# Altium integrated library myIntegrated_Library1.IntLib: 115 symbols
Pins are listed as number, name and electrical type; pins without a type are passive.

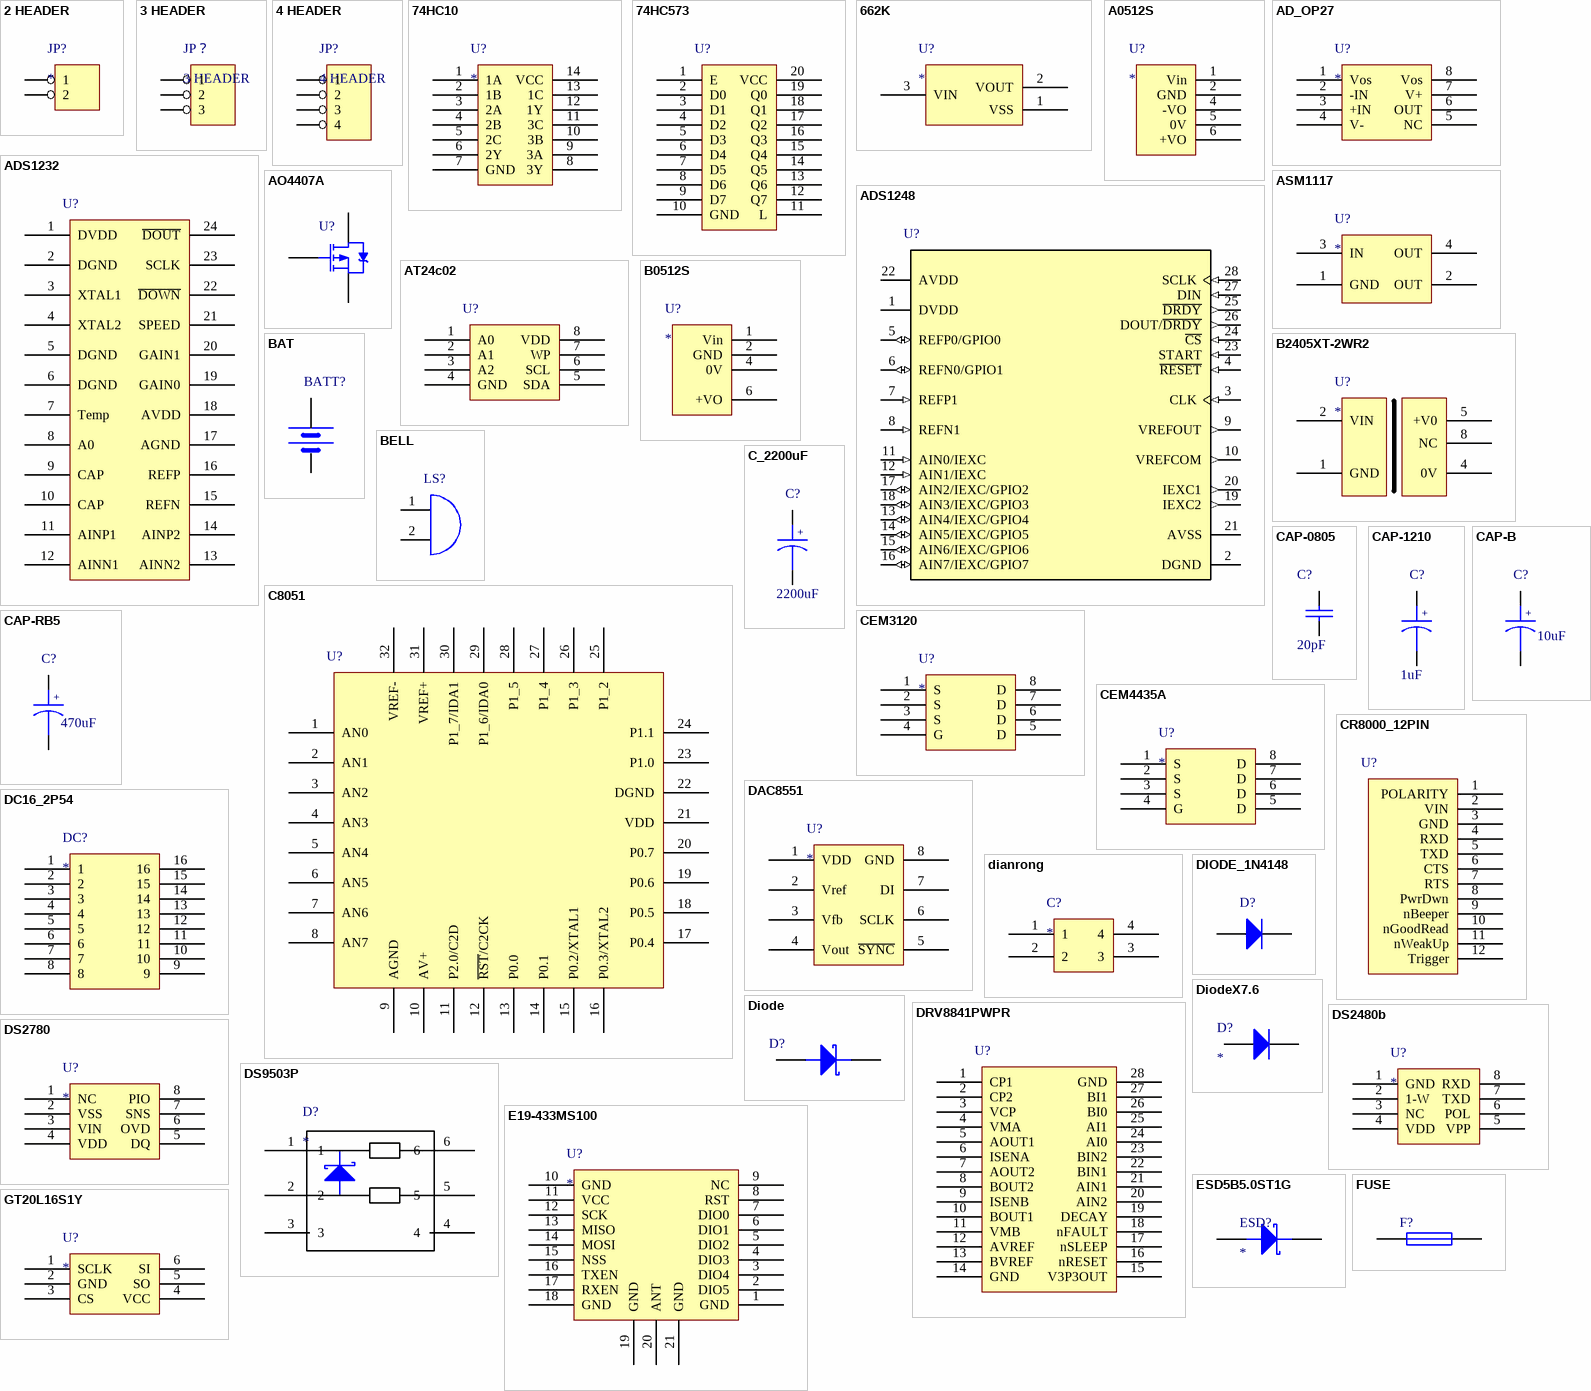
[diagram p0: symbols 2 HEADER to GT20L16S1Y]

## 2 HEADER
designator JP?
2 HEADER
footprint HDR1X2
pins: 1, 2

## 3 HEADER
designator JP？
3 Pin Header
footprint HDR1X3
pins: 1, 2, 3

## 4 HEADER
designator JP?
4 Pin Header
footprint HDR1X4
footprint TERMINAL_3.81MM
footprint SOP_XH4
footprint SMA-KWE
footprint CON4_1.5_1
pins: 1, 2, 3, 4

## 74HC10
designator U?
three input nand gain
footprint SO14 (Wide = 6mm)
pins: 1 1A, 2 1B, 3 2A, 4 2B, 5 2C, 6 2Y, 7 GND, 8 3Y, 9 3A, 10 3B, 11 3C, 12 1Y, 13 1C, 14 VCC

## 74HC573
designator U?  (value not drawn)
footprint 74HC573
pins: 1 E, 2 D0, 3 D1, 4 D2, 5 D3, 6 D4, 7 D5, 8 D6, 9 D7, 10 GND, 11 L, 12 Q7, 13 Q6, 14 Q5, 15 Q4, 16 Q3, 17 Q2, 18 Q1, 19 Q0, 20 VCC

## 662K
designator U?
footprint SOT-23
pins: 1 VSS, 2 VOUT, 3 VIN

## A0512S
designator U?
footprint SIP6-A0512S
pins: 1 Vin, 2 GND, 4 -VO, 5 0V, 6 +VO

## AD_OP27
designator U?
footprint SOP8-OP27
pins: 1 Vos, 2 -IN, 3 +IN, 4 V-, 5 NC, 6 OUT, 7 V+, 8 Vos

## ADS1232
designator U?  (value not drawn)
footprint TSSOP-24
pins: 1 DVDD, 2 DGND, 3 XTAL1, 4 XTAL2, 5 DGND, 6 DGND, 7 Temp, 8 A0, 9 CAP, 10 CAP, 11 AINP1, 12 AINN1, 13 AINN2, 14 AINP2, 15 REFN, 16 REFP, 17 AGND, 18 AVDD, 19 GAIN0, 20 GAIN1, 21 SPEED, 22 ~{DOWN}, 23 SCLK, 24 ~{DOUT}

## ADS1248
designator U?  (value not drawn)
footprint PW0028A_N
pins: 1 DVDD (power), 2 DGND (power), 3 CLK (in), 4 ~{RESET} (in), 5 REFP0/GPIO0 (io), 6 REFN0/GPIO1 (io), 7 REFP1 (in), 8 REFN1 (in), 9 VREFOUT (out), 10 VREFCOM (out), 11 AIN0/IEXC (in), 12 AIN1/IEXC (in), 13 AIN4/IEXC/GPIO4 (io), 14 AIN5/IEXC/GPIO5 (io), 15 AIN6/IEXC/GPIO6 (io), 16 AIN7/IEXC/GPIO7 (io), 17 AIN2/IEXC/GPIO2 (io), 18 AIN3/IEXC/GPIO3 (io), 19 IEXC2 (out), 20 IEXC1 (out), 21 AVSS (power), 22 AVDD (power), 23 START (in), 24 ~{CS} (in), 25 ~{DRDY} (out), 26 DOUT/~{DRDY} (out), 27 DIN (in), 28 SCLK (in)

## AO4407A
designator U?  (value not drawn)
footprint AO4407A
pins: 1 S, 4 G, 5 D

## ASM1117
designator U?
footprint ZZ311 (SOT-223/SC-73; 4 Leads; Body 6.7 x 7.3 mm, inc. leads (LxW max))
pins: 1 GND, 2 OUT, 3 IN, 4 OUT

## AT24c02
designator U?  (value not drawn)
footprint TSSOP8
pins: 1 A0, 2 A1, 3 A2, 4 GND, 5 SDA, 6 SCL, 7 WP, 8 VDD

## B0512S
designator U?
footprint SIP6-B0512S
pins: 1 Vin, 2 GND, 4 0V, 6 +VO

## B2405XT-2WR2
designator U?
footprint B2405XT-2WR2
pins: 1 GND, 2 VIN, 4 0V, 5 +V0, 8 NC

## BAT
designator BATT?  (value not drawn)
BATT
footprint BATM
pins: 1 VCC, 2 GND

## BELL
designator LS?  (value not drawn)
footprint bell
pins: 1 A, 2 B

## C8051
designator U?  (value not drawn)
footprint TQFP-32
pins: 1 AN0, 2 AN1, 3 AN2, 4 AN3, 5 AN4, 6 AN5, 7 AN6, 8 AN7, 9 AGND, 10 AV+, 11 P2.0/C2D, 12 ~{RST}/C2CK, 13 P0.0, 14 P0.1, 15 P0.2/XTAL1, 16 P0.3/XTAL2, 17 P0.4, 18 P0.5, 19 P0.6, 20 P0.7, 21 VDD, 22 DGND, 23 P1.0, 24 P1.1, 25 P1_2, 26 P1_3, 27 P1_4, 28 P1_5, 29 P1_6/IDA0, 30 P1_7/IDA1, 31 VREF+, 32 VREF-

## C_2200uF
designator C?  (value not drawn)
footprint C7.8*17
footprint C5*10
pins: 1, 2
text: +; 2200uF

## CAP-0805
designator C?  value 20pF  (hidden comment: *)
footprint 0805 (1.14mm,1.2mm,3.05mm)
footprint C0805TAN
pins: 1, 2

## CAP-1210
designator C?  value 1uF  (hidden comment: *)
footprint 3225[1210] (Chip Resistor; Body 3.2 x 2.5 mm (LxW typ))
pins: 1, 2
text: +

## CAP-B
designator C?  value 10uF  (hidden comment: *)
footprint B (Capacitor, Electrolytic, Radial; Body 5 x 6.8 mm (Dia.xH typ); Pin Spacing 2 mm (typ))
footprint C3*6
footprint CAP D-7343
footprint Model Name (Model Description)
footprint C-63*54-SMD
pins: 1, 2
text: +

## CAP-RB5
designator C?  value 470uF  (hidden comment: *)
footprint RB5-10.5 (Motor, General Kind; 2 Leads)
footprint 220uF
pins: 1, 2
text: +

## CEM3120
designator U?
footprint SOP8-OP27
pins: 1 S, 2 S, 3 S, 4 G, 5 D, 6 D, 7 D, 8 D

## CEM4435A
designator U?
footprint SOP8-OP27
pins: 1 S, 2 S, 3 S, 4 G, 5 D, 6 D, 7 D, 8 D

## CR8000_12PIN
designator U?  (value not drawn)
footprint CR8000_12PIN
pins: 1 POLARITY, 2 VIN, 3 GND, 4 RXD, 5 TXD, 6 CTS, 7 RTS, 8 PwrDwn, 9 nBeeper, 10 nGoodRead, 11 nWeakUp, 12 Trigger

## DAC8551
designator U?
footprint DAC8551-SOP8
pins: 1 VDD, 2 Vref, 3 Vfb, 4 Vout, 5 ~{SYNC}, 6 SCLK, 7 DI, 8 GND

## DC16_2P54
designator DC?
footprint DC16_DIP16
pins: 1, 2, 3, 4, 5, 6, 7, 8, 9, 10, 11, 12, 13, 14, 15, 16

## dianrong
designator C?
footprint dianrrong
pins: 1, 2, 3, 4

## Diode
designator D?  (value not drawn)
footprint SMC (DO-214-AB/SMC; 2 C-Bend Leads; Body 7.9 x 5.9 mm, inc. leads (LxW))
footprint DIODE-1206
footprint LED-0805
footprint LL34
pins: 1, 2

## DIODE_1N4148
designator D?  (value not drawn)
pins: 1 A, 2 K

## DiodeX7.6
designator D?
footprint Diode7.6-2.5-1.5
footprint SMA
footprint SS34
pins: 1 A, 2 K

## DRV8841PWPR
designator U?  (value not drawn)
footprint TSSOP28_PAD
footprint TSSOP28_PAD
pins: 1 CP1, 2 CP2, 3 VCP, 4 VMA, 5 AOUT1, 6 ISENA, 7 AOUT2, 8 BOUT2, 9 ISENB, 10 BOUT1, 11 VMB, 12 AVREF, 13 BVREF, 14 GND, 15 V3P3OUT, 16 nRESET, 17 nSLEEP, 18 nFAULT, 19 DECAY, 20 AIN2, 21 AIN1, 22 BIN1, 23 BIN2, 24 AI0, 25 AI1, 26 BI0, 27 BI1, 28 GND

## DS2480b
designator U?
footprint SOP8-OP27
pins: 1 GND, 2 1-W, 3 NC, 4 VDD, 5 VPP, 6 POL, 7 TXD, 8 RXD

## DS2780
designator U?
footprint TSSOP8
pins: 1 NC, 2 VSS, 3 VIN, 4 VDD, 5 DQ, 6 OVD, 7 SNS, 8 PIO

## DS9503P
designator D?
footprint TSOC-6
pins: 1, 2, 3, 4, 5, 6

## E19-433MS100
designator U?
footprint E19-433MS100
pins: 1 GND, 2 DIO5, 3 DIO4, 4 DIO3, 5 DIO2, 6 DIO1, 7 DIO0, 8 RST, 9 NC, 10 GND, 11 VCC, 12 SCK, 13 MISO, 14 MOSI, 15 NSS, 16 TXEN, 17 RXEN, 18 GND, 19 GND, 20 ANT, 21 GND

## ESD5B5.0ST1G
designator ESD?
footprint SOD-523
pins: 1, 2

## FUSE
designator F?  (value not drawn)
footprint 3225[1210] (Chip Resistor; Body 3.2 x 2.5 mm (LxW typ))
footprint X30UF900
footprint X30UF300
footprint X30UF600
pins: 1, 2

## GT20L16S1Y
designator U?
footprint SOT23-6
pins: 1 SCLK, 2 GND, 3 CS, 4 VCC, 5 SO, 6 SI

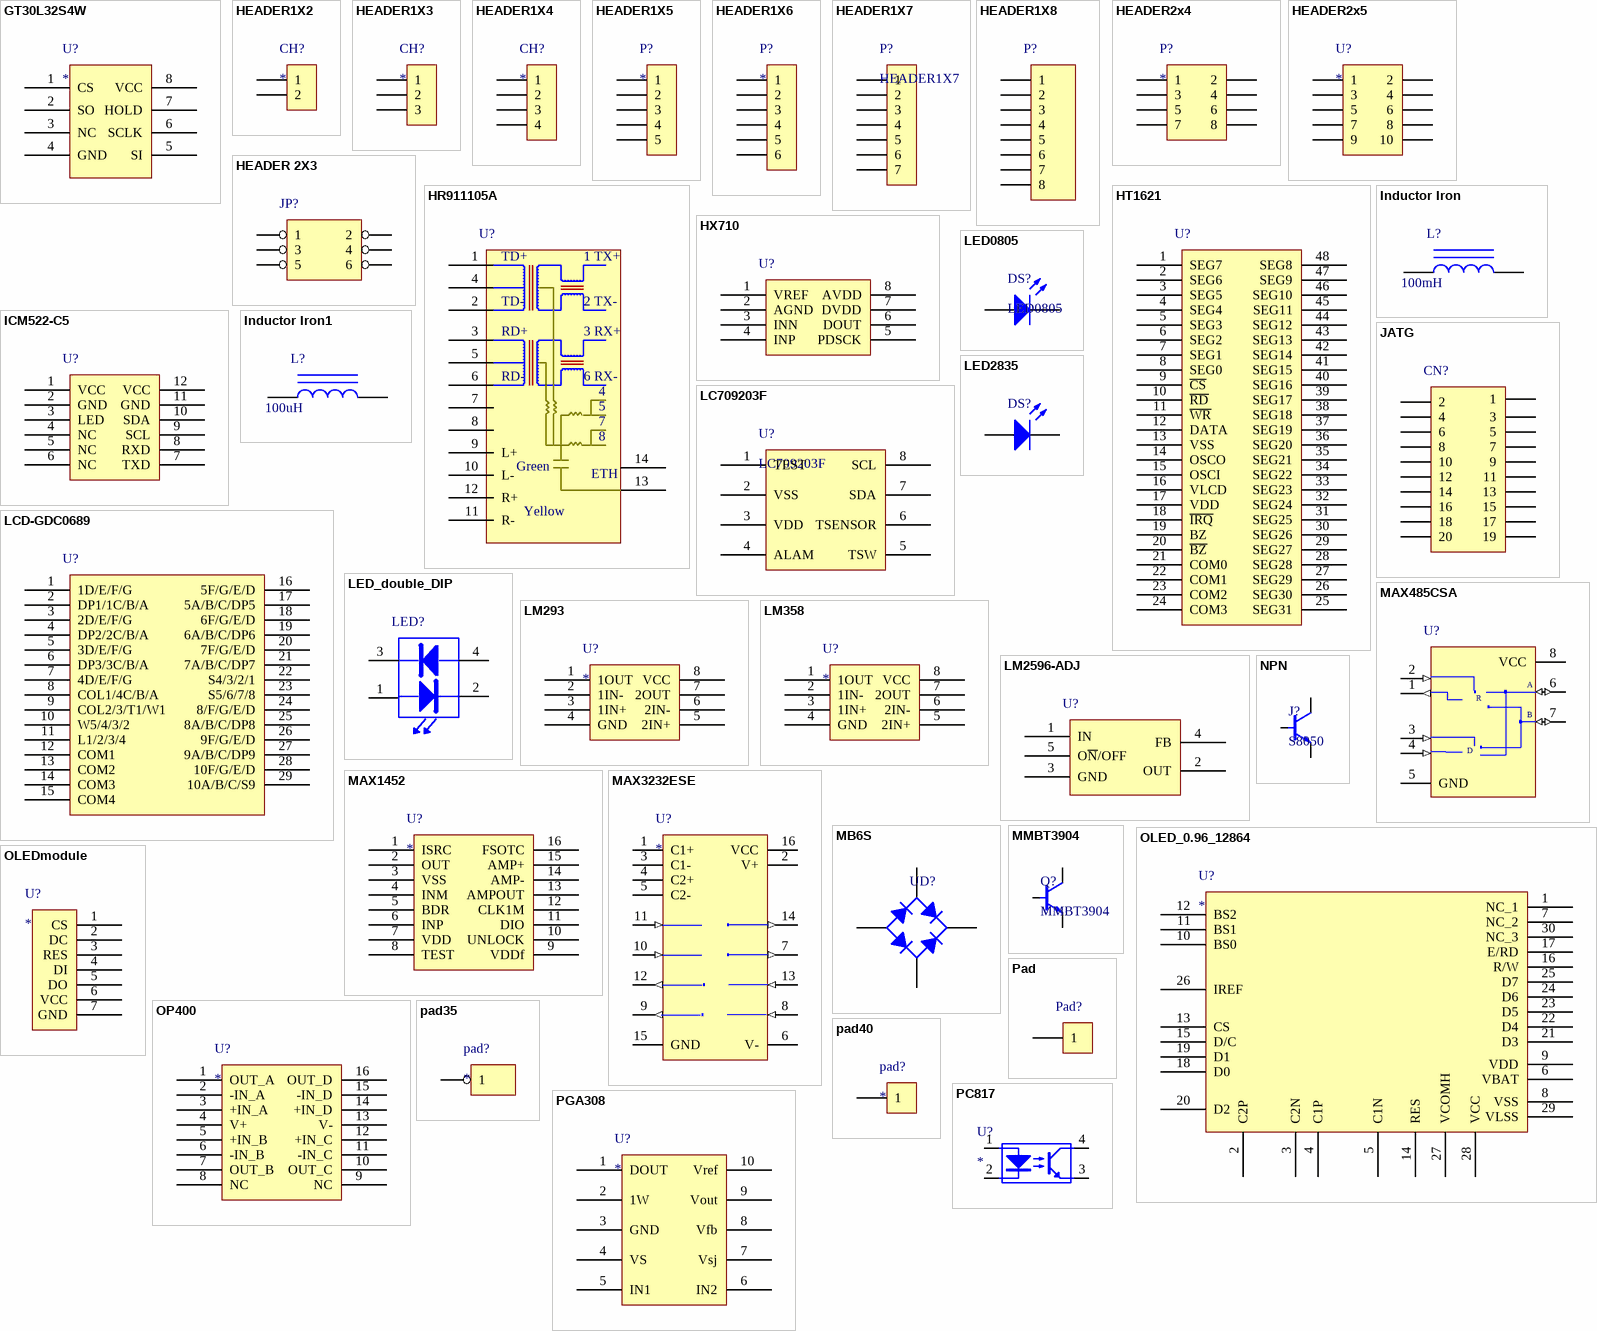
[diagram p1: symbols GT30L32S4W to PGA308]

## GT30L32S4W
designator U?
footprint SOP8_208mil
pins: 1 CS, 2 SO, 3 NC, 4 GND, 5 SI, 6 SCLK, 7 HOLD, 8 VCC

## HEADER1X2
designator CH?
footprint CH3.96-2PIN
footprint CH3961R_2P
pins: 1, 2

## HEADER1X3
designator CH?
footprint CH3.96-3PIN
pins: 1, 2, 3

## HEADER1X4
designator CH?
footprint CH3.96-4PIN
footprint CH396_SO4
footprint XH2.54-4A
footprint XH2.54-4AW
pins: 1, 2, 3, 4

## HEADER1X5
designator P?
footprint HDR1X5
footprint CH3.96-5PIN
pins: 1, 2, 3, 4, 5

## HEADER1X6
designator P?
footprint HDR1X6
footprint CH3.96-6PIN
footprint CH3961R_6P
pins: 1, 2, 3, 4, 5, 6

## HEADER1X7
designator P?
footprint HDR1X7
pins: 1, 2, 3, 4, 5, 6, 7

## HEADER1X8
designator P?  (value not drawn)
Header, 8-Pin
footprint HDR1X8
footprint CH3.96-8PIN
pins: 1, 2, 3, 4, 5, 6, 7, 8

## HEADER2x4
designator P?
footprint HDR2X4
footprint SOP8_switch
pins: 1, 2, 3, 4, 5, 6, 7, 8

## HEADER2x5
designator U?
HEADER2x5
footprint HDR2X5
pins: 1, 2, 3, 4, 5, 6, 7, 8, 9, 10

## HEADER 2X3
designator JP?  (value not drawn)
footprint HDR2X3
pins: 1, 2, 3, 4, 5, 6

## HR911105A
designator U?  (value not drawn)
footprint HR911105A
pins: 1, 2, 3, 4, 5, 6, 7, 8, 9 L+, 10 L-, 11 R-, 12 R+, 13, 14
text: TD+; 1 TX+; TD-; 2 TX-; RD+; 3 RX+; RD-; 6 RX-; Green; ETH; Yellow

## HT1621
designator U?  (value not drawn)
footprint HT1621-SSOP48
pins: 1 SEG7, 2 SEG6, 3 SEG5, 4 SEG4, 5 SEG3, 6 SEG2, 7 SEG1, 8 SEG0, 9 ~{CS}, 10 ~{RD}, 11 ~{WR}, 12 DATA, 13 VSS, 14 OSCO, 15 OSCI, 16 VLCD, 17 VDD, 18 ~{IRQ}, 19 BZ, 20 ~{BZ}, 21 COM0, 22 COM1, 23 COM2, 24 COM3, 25 SEG31, 26 SEG30, 27 SEG29, 28 SEG28, 29 SEG27, 30 SEG26, 31 SEG25, 32 SEG24, 33 SEG23, 34 SEG22, 35 SEG21, 36 SEG20, 37 SEG19, 38 SEG18, 39 SEG17, 40 SEG16, 41 SEG15, 42 SEG14, 43 SEG13, 44 SEG12, 45 SEG11, 46 SEG10, 47 SEG9, 48 SEG8

## HX710
designator U?  (value not drawn)
footprint NS08-L (SOIC, 8-Leads, Body 4.9x3.9mm, Pitch 1.27mm, IPC High Density)
pins: 1 VREF, 2 AGND, 3 INN, 4 INP, 5 PDSCK, 6 DOUT, 7 DVDD, 8 AVDD

## ICM522-C5
designator U?  (value not drawn)
ICM522-C5
footprint ICM522-C5
pins: 1 VCC, 2 GND, 3 LED, 4 NC, 5 NC, 6 NC, 7 TXD, 8 RXD, 9 SCL, 10 SDA, 11 GND, 12 VCC

## Inductor Iron
designator L?  value 100mH  (hidden comment: *)
footprint Inductor_8X8
pins: 1, 2

## Inductor Iron1
designator L?  (value not drawn)
footprint Inductor_4X8
footprint CD54R
footprint 6045
pins: 1, 2
text: 100uH

## JATG
designator CN?  (value not drawn)
footprint JTAG_DIP20
pins: 1, 2, 3, 4, 5, 6, 7, 8, 9, 10, 11, 12, 13, 14, 15, 16, 17, 18, 19, 20

## LC709203F
designator U?
footprint TSSOP8_1
pins: 1 TEST, 2 VSS, 3 VDD, 4 ALAM, 5 TSW, 6 TSENSOR, 7 SDA, 8 SCL

## LCD-GDC0689
designator U?  (value not drawn)
footprint GDC0689-DIP29
pins: 1 1D/E/F/G, 2 DP1/1C/B/A, 3 2D/E/F/G, 4 DP2/2C/B/A, 5 3D/E/F/G, 6 DP3/3C/B/A, 7 4D/E/F/G, 8 COL1/4C/B/A, 9 COL2/3/T1/W1, 10 W5/4/3/2, 11 L1/2/3/4, 12 COM1, 13 COM2, 14 COM3, 15 COM4, 16 5F/G/E/D, 17 5A/B/C/DP5, 18 6F/G/E/D, 19 6A/B/C/DP6, 20 7F/G/E/D, 21 7A/B/C/DP7, 22 S4/3/2/1, 23 S5/6/7/8, 24 8/F/G/E/D, 25 8A/B/C/DP8, 26 9F/G/E/D, 27 9A/B/C/DP9, 28 10F/G/E/D, 29 10A/B/C/S9

## LED0805
designator DS?
Typical INFRARED GaAs LED
footprint LED-0805
footprint LED_5X5
pins: 1, 2

## LED2835
designator DS?  (value not drawn)
value: *
footprint 2835 (LED light footprints)
footprint LED-0805
pins: 1, 2

## LED_double_DIP
designator LED?  (value not drawn)
footprint LED_double
footprint Model Name (Model Description)
pins: 1, 2, 3, 4

## LM293
designator U?
footprint SOP8-OP27
pins: 1 1OUT, 2 1IN-, 3 1IN+, 4 GND, 5 2IN+, 6 2IN-, 7 2OUT, 8 VCC

## LM358
designator U?
footprint SOP8-LM358
pins: 1 1OUT, 2 1IN-, 3 1IN+, 4 GND, 5 2IN+, 6 2IN-, 7 2OUT, 8 VCC

## LM2596-ADJ
designator U?  (value not drawn)
footprint TS5B (D2-PAK; 5 Leads; Body 14.4 (inc. leads) x 10.4 mm (LxW max))
pins: 1 IN, 2 OUT, 3 GND, 4 FB, 5 O~{N}/OFF

## MAX485CSA
designator U?  (value not drawn)
footprint NS08-L (SOIC, 8-Leads, Body 4.9x3.9mm, Pitch 1.27mm, IPC High Density)
pins: 1 RO (out), 2 ~{RE} (in), 3 DE (in), 4 DI (in), 5 GND (power), 6 A (io), 7 B (io), 8 VCC (power)
text: R; D

## MAX1452
designator U?
MAX1452
footprint SSOP16
pins: 1 ISRC, 2 OUT, 3 VSS, 4 INM, 5 BDR, 6 INP, 7 VDD, 8 TEST, 9 VDDf, 10 UNLOCK, 11 DIO, 12 CLK1M, 13 AMPOUT, 14 AMP-, 15 AMP+, 16 FSOTC

## MAX3232ESE
designator U?
MAX3232ESE
footprint NSO16_N
pins: 1 C1+, 2 V+ (power), 3 C1-, 4 C2+, 5 C2-, 6 V- (power), 7 T2OUT (out), 8 R2IN (in), 9 R2OUT (out), 10 T2IN (in), 11 T1IN (in), 12 R1OUT (out), 13 R1IN (in), 14 T1OUT (out), 15 GND (power), 16 VCC (power)

## MB6S
designator UD?  (value not drawn)
footprint MB6S
pins: 1 A, 2 C, 3 K, 4 C

## MMBT3904
designator Q?
footprint SOT-23
pins: 1 B, 2 E, 3 C

## NPN
designator J?, comment S8050
footprint NPN
pins: 1 B, 2 C, 3 E

## OLED_0.96_12864
designator U?
footprint OLED_0.96_12864
footprint OLED_1.30_12864
pins: 1 NC_1, 2 C2P, 3 C2N, 4 C1P, 5 C1N, 6 VBAT, 7 NC_2, 8 VSS, 9 VDD, 10 BS0, 11 BS1, 12 BS2, 13 CS, 14 RES, 15 D/C, 16 R/W, 17 E/RD, 18 D0, 19 D1, 20 D2, 21 D3, 22 D4, 23 D5, 24 D6, 25 D7, 26 IREF, 27 VCOMH, 28 VCC, 29 VLSS, 30 NC_3

## OLEDmodule
designator U?
footprint oledmodule
pins: 1 CS, 2 DC, 3 RES, 4 DI, 5 DO, 6 VCC, 7 GND

## OP400
designator U?
OP400
footprint SOL16
pins: 1 OUT_A, 2 -IN_A, 3 +IN_A, 4 V+, 5 +IN_B, 6 -IN_B, 7 OUT_B, 8 NC, 9 NC, 10 OUT_C, 11 -IN_C, 12 +IN_C, 13 V-, 14 +IN_D, 15 -IN_D, 16 OUT_D

## Pad
designator Pad?  (value not drawn)
footprint Pad
footprint pad35
footprint pad40
footprint PAD2X4MM
pins: 1

## pad35
designator pad?
footprint pad35
pins: 1

## pad40
designator pad?
footprint pad40
pins: 1

## PC817
designator U?
PC817
footprint DIP4-PC817
footprint Model Name (Model Description)
footprint SOP4
footprint Model Name (Model Description)
footprint SOP4-PC817
footprint SOP4_127
pins: 1 LED Anode, 2 LED Cathode, 3 Emitter, 4 Collector

## PGA308
designator U?
PGA308
footprint PGA308
pins: 1 DOUT, 2 1W, 3 GND, 4 VS, 5 IN1, 6 IN2, 7 Vsj, 8 Vfb, 9 Vout, 10 Vref

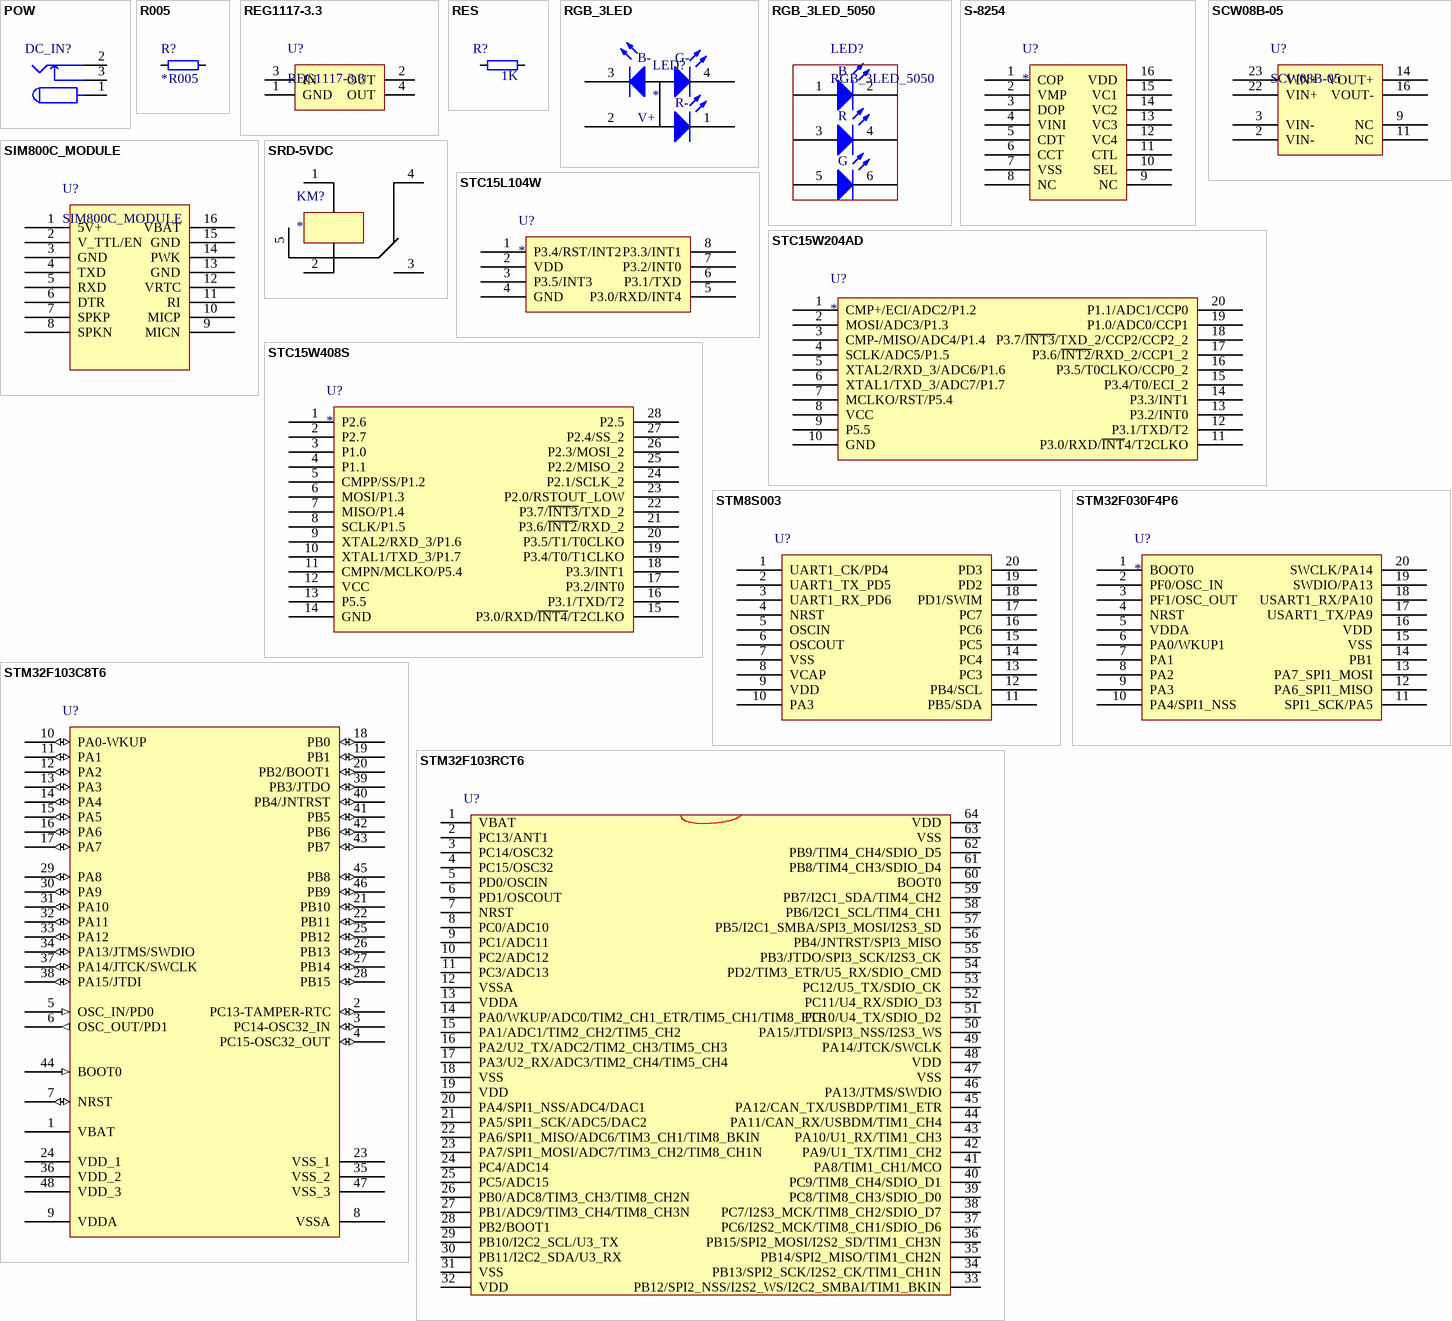
[diagram p2: symbols POW to STM32F103RCT6]

## POW
designator DC_IN?  (value not drawn)
footprint DC10B
pins: 1, 2, 3

## R005
designator R?
footprint 2512
pins: 1, 2

## REG1117-3.3
designator U?
800mA and 1A Low Dropout Positive Regulator 2.85V, 3.3V, 5V, and Adjustable; PackageDescription: SOT-223/SC-73; 4 Leads; Body 6.7 x 7.3 mm, inc. leads (LxW max)
footprint ZZ311 (SOT-223/SC-73; 4 Leads; Body 6.7 x 7.3 mm, inc. leads (LxW max))
pins: 1 GND (power), 2 OUT (power), 3 IN (power), 4 OUT (power)

## RES
designator R?  value 1K  (hidden comment: *)
footprint 0805 (1.14mm,1.2mm,3.05mm)
pins: 1, 2

## RGB_3LED
designator LED?
footprint RGB_3LED_3528
pins: 1 R-, 2 V+, 3 B-, 4 G-

## RGB_3LED_5050
designator LED?
footprint RGB_3LED_5050
pins: 1, 2, 3, 4, 5, 6
text: B; R; G

## S-8254
designator U?
footprint TSSOP16
pins: 1 COP, 2 VMP, 3 DOP, 4 VINI, 5 CDT, 6 CCT, 7 VSS, 8 NC, 9 NC, 10 SEL, 11 CTL, 12 VC4, 13 VC3, 14 VC2, 15 VC1, 16 VDD

## SCW08B-05
designator U?
footprint SCW08B-05
pins: 2 VIN-, 3 VIN-, 9 NC, 11 NC, 14 VOUT+, 16 VOUT-, 22 VIN+, 23 VIN+

## SIM800C_MODULE
designator U?
footprint SIM800C_MODULE
pins: 1 5V+, 2 V_TTL/EN, 3 GND, 4 TXD, 5 RXD, 6 DTR, 7 SPKP, 8 SPKN, 9 MICN, 10 MICP, 11 RI, 12 VRTC, 13 GND, 14 PWK, 15 GND, 16 VBAT

## SRD-5VDC
designator KM?
SRD-5VDC
footprint SRD_5DIP
pins: 1, 2, 3, 4, 5

## STC15L104W
designator U?
STC15L104W
footprint SOP8-OP27
pins: 1 P3.4/RST/INT2, 2 VDD, 3 P3.5/INT3, 4 GND, 5 P3.0/RXD/INT4, 6 P3.1/TXD, 7 P3.2/INT0, 8 P3.3/INT1

## STC15W204AD
designator U?
pins: 1 CMP+/ECI/ADC2/P1.2, 2 MOSI/ADC3/P1.3, 3 CMP-/MISO/ADC4/P1.4, 4 SCLK/ADC5/P1.5, 5 XTAL2/RXD_3/ADC6/P1.6, 6 XTAL1/TXD_3/ADC7/P1.7, 7 MCLKO/RST/P5.4, 8 VCC, 9 P5.5, 10 GND, 11 P3.0/RXD/~{INT}4/T2CLKO, 12 P3.1/TXD/T2, 13 P3.2/INT0, 14 P3.3/INT1, 15 P3.4/T0/ECI_2, 16 P3.5/T0CLKO/CCP0_2, 17 P3.6/~{INT2}/RXD_2/CCP1_2, 18 P3.7/~{INT3}/TXD_2/CCP2/CCP2_2, 19 P1.0/ADC0/CCP1, 20 P1.1/ADC1/CCP0

## STC15W408S
designator U?
pins: 1 P2.6, 2 P2.7, 3 P1.0, 4 P1.1, 5 CMPP/SS/P1.2, 6 MOSI/P1.3, 7 MISO/P1.4, 8 SCLK/P1.5, 9 XTAL2/RXD_3/P1.6, 10 XTAL1/TXD_3/P1.7, 11 CMPN/MCLKO/P5.4, 12 VCC, 13 P5.5, 14 GND, 15 P3.0/RXD/~{INT4}/T2CLKO, 16 P3.1/TXD/T2, 17 P3.2/INT0, 18 P3.3/INT1, 19 P3.4/T0/T1CLKO, 20 P3.5/T1/T0CLKO, 21 P3.6/~{INT2}/RXD_2, 22 P3.7/~{INT3}/TXD_2, 23 P2.0/RSTOUT_LOW, 24 P2.1/SCLK_2, 25 P2.2/MISO_2, 26 P2.3/MOSI_2, 27 P2.4/SS_2, 28 P2.5

## STM8S003
designator U?  (value not drawn)
STM8S003
footprint TSSOP20
pins: 1 UART1_CK/PD4, 2 UART1_TX_PD5, 3 UART1_RX_PD6, 4 NRST, 5 OSCIN, 6 OSCOUT, 7 VSS, 8 VCAP, 9 VDD, 10 PA3, 11 PB5/SDA, 12 PB4/SCL, 13 PC3, 14 PC4, 15 PC5, 16 PC6, 17 PC7, 18 PD1/SWIM, 19 PD2, 20 PD3

## STM32F030F4P6
designator U?
footprint TSSOP20
pins: 1 BOOT0, 2 PF0/OSC_IN, 3 PF1/OSC_OUT, 4 NRST, 5 VDDA, 6 PA0/WKUP1, 7 PA1, 8 PA2, 9 PA3, 10 PA4/SPI1_NSS, 11 SPI1_SCK/PA5, 12 PA6_SPI1_MISO, 13 PA7_SPI1_MOSI, 14 PB1, 15 VSS, 16 VDD, 17 USART1_TX/PA9, 18 USART1_RX/PA10, 19 SWDIO/PA13, 20 SWCLK/PA14

## STM32F103C8T6
designator U?  (value not drawn)
STM32F103C8T6
footprint LQFP48
pins: 1 VBAT (power), 2 PC13-TAMPER-RTC (io), 3 PC14-OSC32_IN (io), 4 PC15-OSC32_OUT (io), 5 OSC_IN/PD0 (in), 6 OSC_OUT/PD1 (out), 7 NRST (io), 8 VSSA (power), 9 VDDA (power), 10 PA0-WKUP (io), 11 PA1 (io), 12 PA2 (io), 13 PA3 (io), 14 PA4 (io), 15 PA5 (io), 16 PA6 (io), 17 PA7 (io), 18 PB0 (io), 19 PB1 (io), 20 PB2/BOOT1 (io), 21 PB10 (io), 22 PB11 (io), 23 VSS_1 (power), 24 VDD_1 (power), 25 PB12 (io), 26 PB13 (io), 27 PB14 (io), 28 PB15 (io), 29 PA8 (io), 30 PA9 (io), 31 PA10 (io), 32 PA11 (io), 33 PA12 (io), 34 PA13/JTMS/SWDIO (io), 35 VSS_2 (power), 36 VDD_2 (power), 37 PA14/JTCK/SWCLK (io), 38 PA15/JTDI (io), 39 PB3/JTDO (io), 40 PB4/JNTRST (io), 41 PB5 (io), 42 PB6 (io), 43 PB7 (io), 44 BOOT0 (in), 45 PB8 (io), 46 PB9 (io), 47 VSS_3 (power), 48 VDD_3 (power)

## STM32F103RCT6
designator U?  (value not drawn)
STM32F103RCT6
footprint LQFP64 (Thin QFP, 64-Leads, Body 10x10mm, Pitch 0.5mm, IPC Medium Density)
footprint LQFP64 - duplicate (LQFP64)
pins: 1 VBAT, 2 PC13/ANT1, 3 PC14/OSC32, 4 PC15/OSC32, 5 PD0/OSCIN, 6 PD1/OSCOUT, 7 NRST, 8 PC0/ADC10, 9 PC1/ADC11, 10 PC2/ADC12, 11 PC3/ADC13, 12 VSSA, 13 VDDA, 14 PA0/WKUP/ADC0/TIM2_CH1_ETR/TIM5_CH1/TIM8_ETR, 15 PA1/ADC1/TIM2_CH2/TIM5_CH2, 16 PA2/U2_TX/ADC2/TIM2_CH3/TIM5_CH3, 17 PA3/U2_RX/ADC3/TIM2_CH4/TIM5_CH4, 18 VSS, 19 VDD, 20 PA4/SPI1_NSS/ADC4/DAC1, 21 PA5/SPI1_SCK/ADC5/DAC2, 22 PA6/SPI1_MISO/ADC6/TIM3_CH1/TIM8_BKIN, 23 PA7/SPI1_MOSI/ADC7/TIM3_CH2/TIM8_CH1N, 24 PC4/ADC14, 25 PC5/ADC15, 26 PB0/ADC8/TIM3_CH3/TIM8_CH2N, 27 PB1/ADC9/TIM3_CH4/TIM8_CH3N, 28 PB2/BOOT1, 29 PB10/I2C2_SCL/U3_TX, 30 PB11/I2C2_SDA/U3_RX, 31 VSS, 32 VDD, 33 PB12/SPI2_NSS/I2S2_WS/I2C2_SMBAI/TIM1_BKIN, 34 PB13/SPI2_SCK/I2S2_CK/TIM1_CH1N, 35 PB14/SPI2_MISO/TIM1_CH2N, 36 PB15/SPI2_MOSI/I2S2_SD/TIM1_CH3N, 37 PC6/I2S2_MCK/TIM8_CH1/SDIO_D6, 38 PC7/I2S3_MCK/TIM8_CH2/SDIO_D7, 39 PC8/TIM8_CH3/SDIO_D0, 40 PC9/TIM8_CH4/SDIO_D1, 41 PA8/TIM1_CH1/MCO, 42 PA9/U1_TX/TIM1_CH2, 43 PA10/U1_RX/TIM1_CH3, 44 PA11/CAN_RX/USBDM/TIM1_CH4, 45 PA12/CAN_TX/USBDP/TIM1_ETR, 46 PA13/JTMS/SWDIO, 47 VSS, 48 VDD, 49 PA14/JTCK/SWCLK, 50 PA15/JTDI/SPI3_NSS/I2S3_WS, 51 PC10/U4_TX/SDIO_D2, 52 PC11/U4_RX/SDIO_D3, 53 PC12/U5_TX/SDIO_CK, 54 PD2/TIM3_ETR/U5_RX/SDIO_CMD, 55 PB3/JTDO/SPI3_SCK/I2S3_CK, 56 PB4/JNTRST/SPI3_MISO, 57 PB5/I2C1_SMBA/SPI3_MOSI/I2S3_SD, 58 PB6/I2C1_SCL/TIM4_CH1, 59 PB7/I2C1_SDA/TIM4_CH2, 60 BOOT0, 61 PB8/TIM4_CH3/SDIO_D4, 62 PB9/TIM4_CH4/SDIO_D5, 63 VSS, 64 VDD

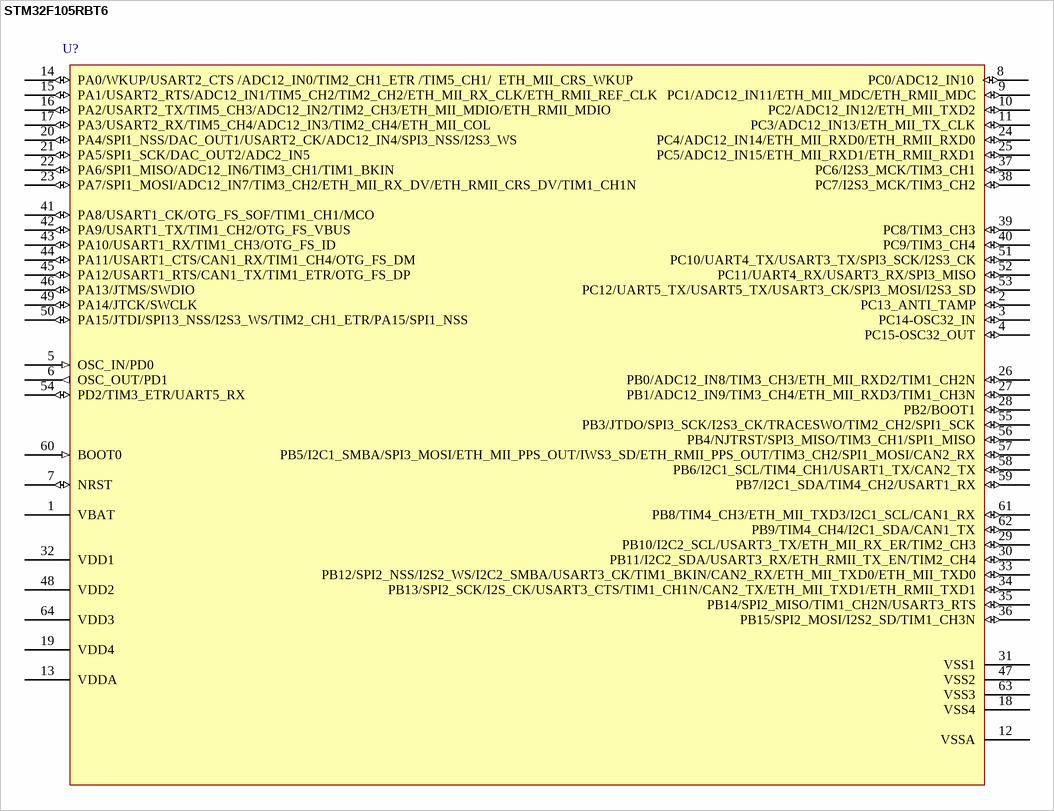
[diagram p3: symbol STM32F105RBT6]

## STM32F105RBT6
designator U?  (value not drawn)
footprint STM32-LQFP64 (Thin QFP, 64-Leads, Body 10x10mm, Pitch 0.5mm, IPC Medium Density)
pins: 1 VBAT (power), 2 PC13_ANTI_TAMP (io), 3 PC14-OSC32_IN (io), 4 PC15-OSC32_OUT (io), 5 OSC_IN/PD0 (in), 6 OSC_OUT/PD1 (out), 7 NRST (io), 8 PC0/ADC12_IN10 (io), 9 PC1/ADC12_IN11/ETH_MII_MDC/ETH_RMII_MDC (io), 10 PC2/ADC12_IN12/ETH_MII_TXD2 (io), 11 PC3/ADC12_IN13/ETH_MII_TX_CLK (io), 12 VSSA (power), 13 VDDA (power), 14 PA0/WKUP/USART2_CTS /ADC12_IN0/TIM2_CH1_ETR /TIM5_CH1/  ETH_MII_CRS_WKUP (io), 15 PA1/USART2_RTS/ADC12_IN1/TIM5_CH2/TIM2_CH2/ETH_MII_RX_CLK/ETH_RMII_REF_CLK (io), 16 PA2/USART2_TX/TIM5_CH3/ADC12_IN2/TIM2_CH3/ETH_MII_MDIO/ETH_RMII_MDIO (io), 17 PA3/USART2_RX/TIM5_CH4/ADC12_IN3/TIM2_CH4/ETH_MII_COL (io), 18 VSS4 (power), 19 VDD4 (power), 20 PA4/SPI1_NSS/DAC_OUT1/USART2_CK/ADC12_IN4/SPI3_NSS/I2S3_WS (io), 21 PA5/SPI1_SCK/DAC_OUT2/ADC2_IN5 (io), 22 PA6/SPI1_MISO/ADC12_IN6/TIM3_CH1/TIM1_BKIN (io), 23 PA7/SPI1_MOSI/ADC12_IN7/TIM3_CH2/ETH_MII_RX_DV/ETH_RMII_CRS_DV/TIM1_CH1N (io), 24 PC4/ADC12_IN14/ETH_MII_RXD0/ETH_RMII_RXD0 (io), 25 PC5/ADC12_IN15/ETH_MII_RXD1/ETH_RMII_RXD1 (io), 26 PB0/ADC12_IN8/TIM3_CH3/ETH_MII_RXD2/TIM1_CH2N (io), 27 PB1/ADC12_IN9/TIM3_CH4/ETH_MII_RXD3/TIM1_CH3N (io), 28 PB2/BOOT1 (io), 29 PB10/I2C2_SCL/USART3_TX/ETH_MII_RX_ER/TIM2_CH3 (io), 30 PB11/I2C2_SDA/USART3_RX/ETH_RMII_TX_EN/TIM2_CH4 (io), 31 VSS1 (power), 32 VDD1 (power), 33 PB12/SPI2_NSS/I2S2_WS/I2C2_SMBA/USART3_CK/TIM1_BKIN/CAN2_RX/ETH_MII_TXD0/ETH_MII_TXD0 (io), 34 PB13/SPI2_SCK/I2S_CK/USART3_CTS/TIM1_CH1N/CAN2_TX/ETH_MII_TXD1/ETH_RMII_TXD1 (io), 35 PB14/SPI2_MISO/TIM1_CH2N/USART3_RTS (io), 36 PB15/SPI2_MOSI/I2S2_SD/TIM1_CH3N (io), 37 PC6/I2S3_MCK/TIM3_CH1 (io), 38 PC7/I2S3_MCK/TIM3_CH2 (io), 39 PC8/TIM3_CH3 (io), 40 PC9/TIM3_CH4 (io), 41 PA8/USART1_CK/OTG_FS_SOF/TIM1_CH1/MCO (io), 42 PA9/USART1_TX/TIM1_CH2/OTG_FS_VBUS (io), 43 PA10/USART1_RX/TIM1_CH3/OTG_FS_ID (io), 44 PA11/USART1_CTS/CAN1_RX/TIM1_CH4/OTG_FS_DM (io), 45 PA12/USART1_RTS/CAN1_TX/TIM1_ETR/OTG_FS_DP (io), 46 PA13/JTMS/SWDIO (io), 47 VSS2 (power), 48 VDD2 (power), 49 PA14/JTCK/SWCLK (io), 50 PA15/JTDI/SPI13_NSS/I2S3_WS/TIM2_CH1_ETR/PA15/SPI1_NSS (io), 51 PC10/UART4_TX/USART3_TX/SPI3_SCK/I2S3_CK (io), 52 PC11/UART4_RX/USART3_RX/SPI3_MISO (io), 53 PC12/UART5_TX/USART5_TX/USART3_CK/SPI3_MOSI/I2S3_SD (io), 54 PD2/TIM3_ETR/UART5_RX (io), 55 PB3/JTDO/SPI3_SCK/I2S3_CK/TRACESWO/TIM2_CH2/SPI1_SCK (io), 56 PB4/NJTRST/SPI3_MISO/TIM3_CH1/SPI1_MISO (io), 57 PB5/I2C1_SMBA/SPI3_MOSI/ETH_MII_PPS_OUT/IWS3_SD/ETH_RMII_PPS_OUT/TIM3_CH2/SPI1_MOSI/CAN2_RX (io), 58 PB6/I2C1_SCL/TIM4_CH1/USART1_TX/CAN2_TX (io), 59 PB7/I2C1_SDA/TIM4_CH2/USART1_RX (io), 60 BOOT0 (in), 61 PB8/TIM4_CH3/ETH_MII_TXD3/I2C1_SCL/CAN1_RX (io), 62 PB9/TIM4_CH4/I2C1_SDA/CAN1_TX (io), 63 VSS3 (power), 64 VDD3 (power)

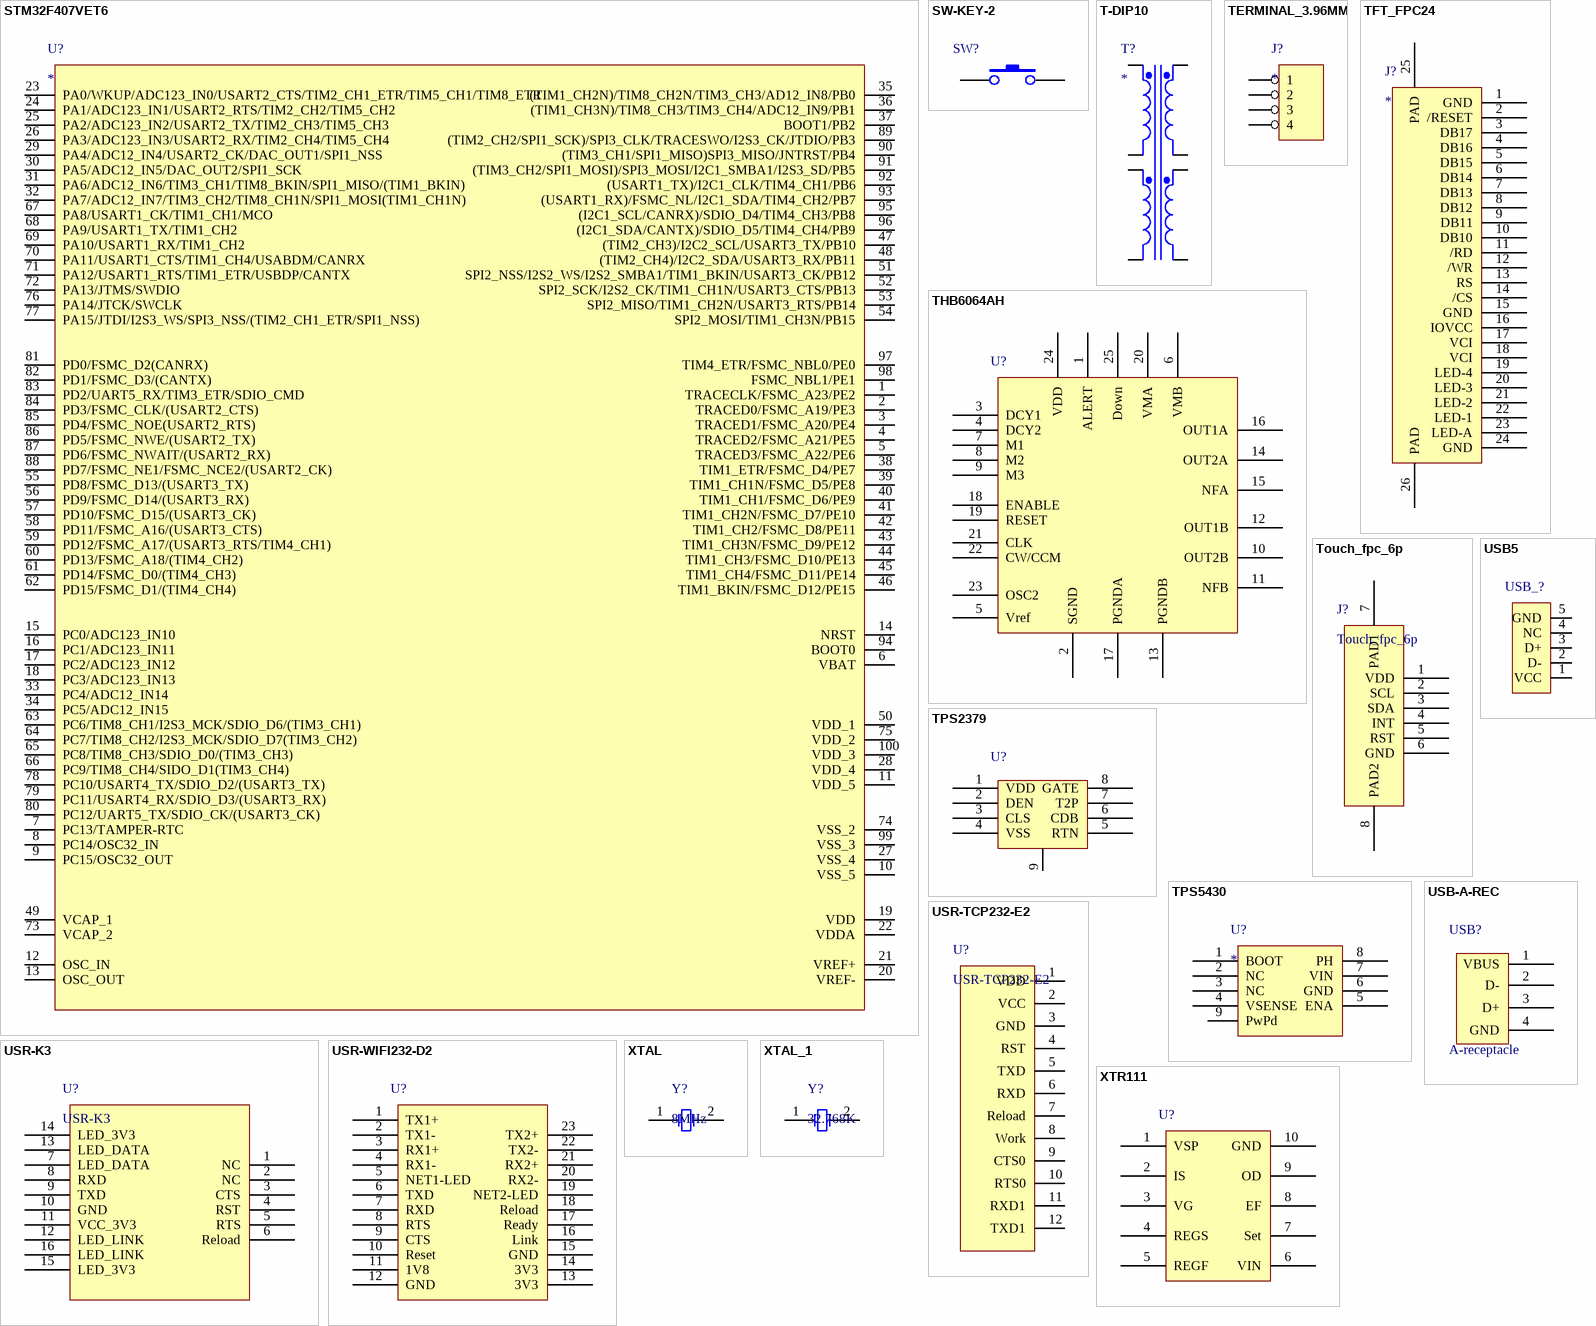
[diagram p4: symbols STM32F407VET6 to XTR111]

## STM32F407VET6
designator U?
footprint LQFP-100_14x14x05P
pins: 1 TRACECLK/FSMC_A23/PE2, 2 TRACED0/FSMC_A19/PE3, 3 TRACED1/FSMC_A20/PE4, 4 TRACED2/FSMC_A21/PE5, 5 TRACED3/FSMC_A22/PE6, 6 VBAT, 7 PC13/TAMPER-RTC, 8 PC14/OSC32_IN, 9 PC15/OSC32_OUT, 10 VSS_5, 11 VDD_5, 12 OSC_IN, 13 OSC_OUT, 14 NRST, 15 PC0/ADC123_IN10, 16 PC1/ADC123_IN11, 17 PC2/ADC123_IN12, 18 PC3/ADC123_IN13, 19 VDD, 20 VREF-, 21 VREF+, 22 VDDA, 23 PA0/WKUP/ADC123_IN0/USART2_CTS/TIM2_CH1_ETR/TIM5_CH1/TIM8_ETR, 24 PA1/ADC123_IN1/USART2_RTS/TIM2_CH2/TIM5_CH2, 25 PA2/ADC123_IN2/USART2_TX/TIM2_CH3/TIM5_CH3, 26 PA3/ADC123_IN3/USART2_RX/TIM2_CH4/TIM5_CH4, 27 VSS_4, 28 VDD_4, 29 PA4/ADC12_IN4/USART2_CK/DAC_OUT1/SPI1_NSS, 30 PA5/ADC12_IN5/DAC_OUT2/SPI1_SCK, 31 PA6/ADC12_IN6/TIM3_CH1/TIM8_BKIN/SPI1_MISO/(TIM1_BKIN), 32 PA7/ADC12_IN7/TIM3_CH2/TIM8_CH1N/SPI1_MOSI(TIM1_CH1N), 33 PC4/ADC12_IN14, 34 PC5/ADC12_IN15, 35 (TIM1_CH2N)/TIM8_CH2N/TIM3_CH3/AD12_IN8/PB0, 36 (TIM1_CH3N)/TIM8_CH3/TIM3_CH4/ADC12_IN9/PB1, 37 BOOT1/PB2, 38 TIM1_ETR/FSMC_D4/PE7, 39 TIM1_CH1N/FSMC_D5/PE8, 40 TIM1_CH1/FSMC_D6/PE9, 41 TIM1_CH2N/FSMC_D7/PE10, 42 TIM1_CH2/FSMC_D8/PE11, 43 TIM1_CH3N/FSMC_D9/PE12, 44 TIM1_CH3/FSMC_D10/PE13, 45 TIM1_CH4/FSMC_D11/PE14, 46 TIM1_BKIN/FSMC_D12/PE15, 47 (TIM2_CH3)/I2C2_SCL/USART3_TX/PB10, 48 (TIM2_CH4)/I2C2_SDA/USART3_RX/PB11, 49 VCAP_1, 50 VDD_1, 51 SPI2_NSS/I2S2_WS/I2S2_SMBA1/TIM1_BKIN/USART3_CK/PB12, 52 SPI2_SCK/I2S2_CK/TIM1_CH1N/USART3_CTS/PB13, 53 SPI2_MISO/TIM1_CH2N/USART3_RTS/PB14, 54 SPI2_MOSI/TIM1_CH3N/PB15, 55 PD8/FSMC_D13/(USART3_TX), 56 PD9/FSMC_D14/(USART3_RX), 57 PD10/FSMC_D15/(USART3_CK), 58 PD11/FSMC_A16/(USART3_CTS), 59 PD12/FSMC_A17/(USART3_RTS/TIM4_CH1), 60 PD13/FSMC_A18/(TIM4_CH2), 61 PD14/FSMC_D0/(TIM4_CH3), 62 PD15/FSMC_D1/(TIM4_CH4), 63 PC6/TIM8_CH1/I2S3_MCK/SDIO_D6/(TIM3_CH1), 64 PC7/TIM8_CH2/I2S3_MCK/SDIO_D7(TIM3_CH2), 65 PC8/TIM8_CH3/SDIO_D0/(TIM3_CH3), 66 PC9/TIM8_CH4/SIDO_D1(TIM3_CH4), 67 PA8/USART1_CK/TIM1_CH1/MCO, 68 PA9/USART1_TX/TIM1_CH2, 69 PA10/USART1_RX/TIM1_CH2, 70 PA11/USART1_CTS/TIM1_CH4/USABDM/CANRX, 71 PA12/USART1_RTS/TIM1_ETR/USBDP/CANTX, 72 PA13/JTMS/SWDIO, 73 VCAP_2, 74 VSS_2, 75 VDD_2, 76 PA14/JTCK/SWCLK, 77 PA15/JTDI/I2S3_WS/SPI3_NSS/(TIM2_CH1_ETR/SPI1_NSS), 78 PC10/USART4_TX/SDIO_D2/(USART3_TX), 79 PC11/USART4_RX/SDIO_D3/(USART3_RX), 80 PC12/UART5_TX/SDIO_CK/(USART3_CK), 81 PD0/FSMC_D2(CANRX), 82 PD1/FSMC_D3/(CANTX), 83 PD2/UART5_RX/TIM3_ETR/SDIO_CMD, 84 PD3/FSMC_CLK/(USART2_CTS), 85 PD4/FSMC_NOE(USART2_RTS), 86 PD5/FSMC_NWE/(USART2_TX), 87 PD6/FSMC_NWAIT/(USART2_RX), 88 PD7/FSMC_NE1/FSMC_NCE2/(USART2_CK), 89 (TIM2_CH2/SPI1_SCK)/SPI3_CLK/TRACESWO/I2S3_CK/JTDIO/PB3, 90 (TIM3_CH1/SPI1_MISO)SPI3_MISO/JNTRST/PB4, 91 (TIM3_CH2/SPI1_MOSI)/SPI3_MOSI/I2C1_SMBA1/I2S3_SD/PB5, 92 (USART1_TX)/I2C1_CLK/TIM4_CH1/PB6, 93 (USART1_RX)/FSMC_NL/I2C1_SDA/TIM4_CH2/PB7, 94 BOOT0, 95 (I2C1_SCL/CANRX)/SDIO_D4/TIM4_CH3/PB8, 96 (I2C1_SDA/CANTX)/SDIO_D5/TIM4_CH4/PB9, 97 TIM4_ETR/FSMC_NBL0/PE0, 98 FSMC_NBL1/PE1, 99 VSS_3, 100 VDD_3

## SW-KEY-2
designator SW?  (value not drawn)
footprint key-2 (3*6*2.5mm)
footprint KEY_SOP4
footprint AN66
footprint KEY_SOP4X4
pins: 1, 2

## T-DIP10
designator T?
T-DIP10
footprint T-DIP10
pins: 1 Pri1+, 2 Pri1-, 3 Pri2+, 4 Pri2-, 5 Sec1+, 6 Sec1-, 7 Sec2+, 8 Sec2-

## TERMINAL_3.96MM
designator J?
TERMINAL_3.96MM
footprint TERMINAL_3.96MM
pins: 1, 2, 3, 4

## TFT_FPC24
designator J?
footprint FPC_0_5MM_24P
pins: 1 GND, 2 /RESET, 3 DB17, 4 DB16, 5 DB15, 6 DB14, 7 DB13, 8 DB12, 9 DB11, 10 DB10, 11 /RD, 12 /WR, 13 RS, 14 /CS, 15 GND, 16 IOVCC, 17 VCI, 18 VCI, 19 LED-4, 20 LED-3, 21 LED-2, 22 LED-1, 23 LED-A, 24 GND, 25 PAD, 26 PAD

## THB6064AH
designator U?  (value not drawn)
footprint THB6064AH_SOP
footprint THB6064AH_DIP
pins: 1 ALERT, 2 SGND, 3 DCY1, 4 DCY2, 5 Vref, 6 VMB, 7 M1, 8 M2, 9 M3, 10 OUT2B, 11 NFB, 12 OUT1B, 13 PGNDB, 14 OUT2A, 15 NFA, 16 OUT1A, 17 PGNDA, 18 ENABLE, 19 RESET, 20 VMA, 21 CLK, 22 CW/CCM, 23 OSC2, 24 VDD, 25 Down

## Touch_fpc_6p
designator J?
footprint FPC_0_5MM_6P
footprint PF050-B06B-C09-A
pins: 1 VDD, 2 SCL, 3 SDA, 4 INT, 5 RST, 6 GND, 7 PAD1, 8 PAD2

## TPS2379
designator U?  (value not drawn)
footprint SO8_PAD
pins: 1 VDD, 2 DEN, 3 CLS, 4 VSS, 5 RTN, 6 CDB, 7 T2P, 8 GATE, 9 PAD

## TPS5430
designator U?
TPS5430
footprint TPS5430_SOP8_1
pins: 1 BOOT, 2 NC, 3 NC, 4 VSENSE, 5 ENA, 6 GND, 7 VIN, 8 PH, 9 PwPd

## USB5
designator USB_?, comment USB  (value not drawn)
footprint USB/SM0.8-6H5
pins: 1 VCC, 2 D-, 3 D+, 4 NC, 5 GND

## USB-A-REC
designator USB?  value A-receptacle  (hidden comment: *)
footprint USB-A-REC (USB-A receptacle)
footprint USB-4-A-SMT-A
pins: 1 VBUS, 2 D-, 3 D+, 4 GND

## USR-K3
designator U?
footprint USR-K3
pins: 1 NC, 2 NC, 3 CTS, 4 RST, 5 RTS, 6 Reload, 7 LED_DATA, 8 RXD, 9 TXD, 10 GND, 11 VCC_3V3, 12 LED_LINK, 13 LED_DATA, 14 LED_3V3, 15 LED_3V3, 16 LED_LINK

## USR-TCP232-E2
designator U?
footprint USR-TCP232-E2
pins: 1 VDD, 2 VCC, 3 GND, 4 RST, 5 TXD, 6 RXD, 7 Reload, 8 Work, 9 CTS0, 10 RTS0, 11 RXD1, 12 TXD1

## USR-WIFI232-D2
designator U?  (value not drawn)
footprint USR-WIFI232-D2
pins: 1 TX1+, 2 TX1-, 3 RX1+, 4 RX1-, 5 NET1-LED, 6 TXD, 7 RXD, 8 RTS, 9 CTS, 10 Reset, 11 1V8, 12 GND, 13 3V3, 14 3V3, 15 GND, 16 Link, 17 Ready, 18 Reload, 19 NET2-LED, 20 RX2-, 21 RX2+, 22 TX2-, 23 TX2+

## XTAL
designator Y?, comment 8MHz
footprint XTAL_US
footprint XTAL_US1
pins: 1 OSC1, 2 OSC2

## XTAL_1
designator Y?, comment 32.768K
footprint XTAL32
pins: 1 OSC1, 2 OSC2

## XTR111
designator U?  (value not drawn)
XTR111
footprint PGA308
pins: 1 VSP, 2 IS, 3 VG, 4 REGS, 5 REGF, 6 VIN, 7 Set, 8 EF, 9 OD, 10 GND